# Altium footprint library U.FL-R-SMT-1.PcbLib: 1 footprints
Each footprint in its own frame and in the unit in brackets; x right, y up, seen from the top. Pads: shape width x height; smd on the part's side, far side on the other; paste and mask are expansions set on the pad; w line width, h text height; cw(c..) or ccw(c..) is an arc to the next point about the centre after c.
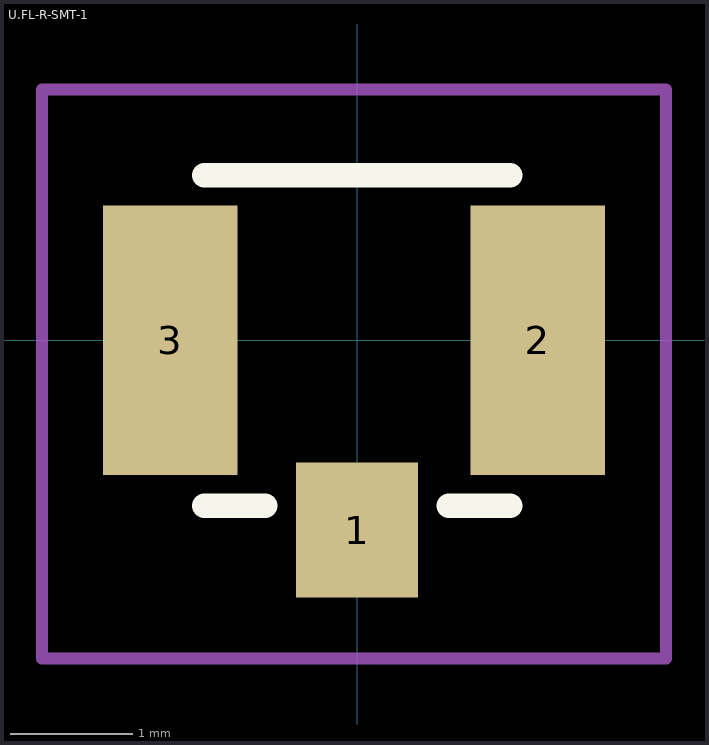
[diagram p0: the footprint, top view; thin cyan lines are the x and y axes]

## U.FL-R-SMT-1 [mm]
pads (3):
  rect 1x1.1 smd: 1(0,-1.55)
  rect 1.1x2.2 smd: 2(1.475,0) 3(-1.525,0)
Top Overlay:
  lines w0.2: -1.25,-1.35 -0.75,-1.35 ; -1.25,1.35 1.25,1.35 ; 0.75,-1.35 1.25,-1.35
Top Courtyard:
  lines w0.1: -2.575,-2.6 -2.575,2.05 2.525,2.05 2.525,-2.6 -0.5,-2.6 -2.575,-2.6
3D body "step_temp.STEP": height 1.25, standoff 0, extent -1.5,-1.55 1.5,1.55